# EAGLE library part TPS63002 (library TPS63002)
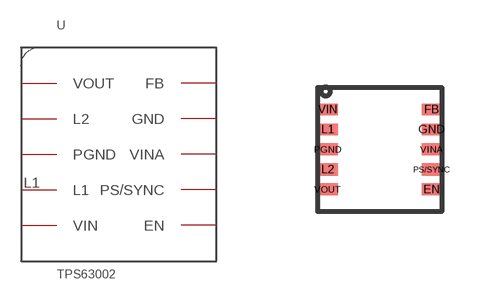
[diagram p0: symbol with the pads of TPS63002; footprint TPS63002]

Designator prefix -

## TPS63002  [TPS63002]
EN  EN
FB  FB
GND  GND
L1  L1
L2  L2
PGND  PGND
PS/SYNC  PS/SYNC
VIN  VIN
VINA  VINA
VOUT  VOUT

## Footprint TPS63002 (pad centres in mm)
smd 0.5 x 0.3: EN 2.85,0.55; FB 2.85,2.55; GND 2.85,2.05; L1 0.25,2.05; L2 0.25,1.05; PGND 0.25,1.55; PS/SYNC 2.85,1.05; VIN 0.25,2.55; VINA 2.85,1.55; VOUT 0.25,0.55